# Altium footprint library footprint.PcbLib: 25 footprints (part 2 of 2)
Each footprint in its own frame and in the unit in brackets; x right, y up, seen from the top. Pads: shape width x height; smd on the part's side, far side on the other; paste and mask are expansions set on the pad; w line width, h text height; cw(c..) or ccw(c..) is an arc to the next point about the centre after c.
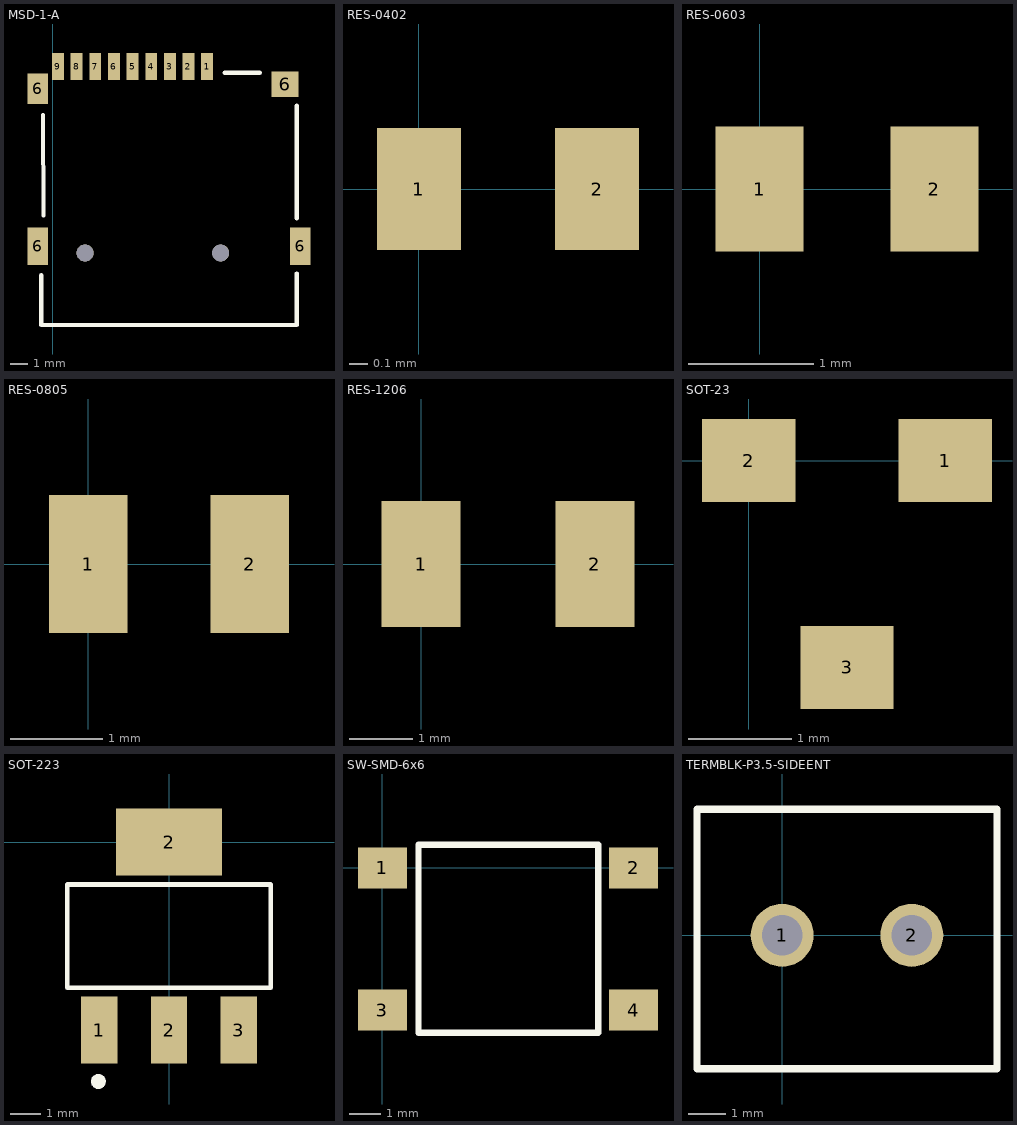
[diagram p1: the footprints below, top view; thin cyan lines are the x and y axes]

## MSD-1-A [mm]
pads (15):
  rect 0.7x1.6 smd mask+0.08: 1(9.118,-2.93) 2(8.018,-2.93) 3(6.918,-2.93) 4(5.818,-2.93) 5(4.718,-2.93) 6(3.618,-2.93) 7(2.518,-2.93) 8(1.418,-2.93) 9(0.318,-2.93)
  rect 1.2x2.2 smd mask+0.1: 6(-0.882,-13.53) 6(14.618,-13.53)
  rect 1.2x1.8 smd mask+0.1: 6(-0.882,-4.23)
  rect 1.6x1.5 smd mask+0.1: 6(13.718,-3.98)
  round 1 hole 1 unplated: ""(1.918,-13.93) ""(9.918,-13.93)
Top Overlay:
  lines w0.254: -0.665,-15.237 -0.665,-18.182 9.481,-18.182 10.217,-18.182 14.41,-18.182 14.41,-15.141 ; -0.569,-5.795 -0.537,-11.716 ; 10.152,-3.299 12.226,-3.299 ; 14.41,-11.876 14.41,-5.251
3D body "Same_Sky_MSD-1-A.step": height 1.8, standoff -0.6, extent -1.157,-17.98 14.993,-2.93

## RES-0402 [mm]
pads (2):
  rect 0.45x0.65 smd mask+0.02: 1(0,0) 2(0.95,0)
3D body "RC0402FR-07226RL.STEP": height 0.4, standoff 0, extent -0.037,-0.239 0.963,0.261

## RES-0603 [mm]
pads (2):
  rect 0.7x1 smd mask+0.03: 1(0,0) 2(1.4,0)
3D body "RC0603JR-070RL--3DModel-STEP-510211.STEP": height 0.55, standoff 0, extent -0.105,-0.398 1.495,0.402

## RES-0805 [mm]
pads (2):
  rect 0.85x1.5 smd mask+0.04: 1(0,0) 2(1.75,0)
3D body "RC0805FR-07910RL.STEP": height 0.6, standoff 0, extent -0.128,-0.604 1.872,0.646

## RES-1206 [mm]
pads (2):
  rect 1.25x2 smd mask+0.05: 1(0,0) 2(2.75,0)
3D body "RC1206JR-0713RL.STEP": height 0.65, standoff 0, extent -0.127,-0.787 2.973,0.813

## SOT-23 [mm]
pads (3):
  rect 0.9x0.8 smd mask+0.05: 1(1.9,0) 2(0,0) 3(0.95,-2)
3D body "S8050--3DModel-STEP-510211.STEP": height 1.4, standoff 0, extent -0.506,-2.306 2.394,0.294

## SOT-223 [mm]
pads (5):
  rect 1.2x2.2 smd mask+0.07: 1(-2.3,-6.2) 2(0,-6.2) 3(2.3,-6.2)
  rect 3.5x2.2 smd mask+0.07: 2(0,0)
  round 0.5 on Top Overlay: ""(-2.33,-7.893)
Top Overlay:
  lines w0.15: -3.35,-4.8 -3.35,-1.4 3.35,-1.4 3.35,-4.8 -3.35,-4.8
3D body "SOT-223_DIO.step": height 1.65, standoff 0, extent -3.3,-6.669 3.25,0.431

## SW-SMD-6x6 [mm]
pads (4):
  rect 1.55x1.3 smd mask+0.1: 1(0,0) 2(7.95,0) 3(0,-4.5) 4(7.95,-4.5)
Top Overlay:
  lines w0.2: 1.14,-5.223 1.14,0.731 6.832,0.731 6.832,-5.223 1.14,-5.223
3D body "PTS645SK43SMTR92 LFS.STEP": height 4.3, standoff 0, extent -0.52,-5.233 8.48,0.767

## TERMBLK-P3.5-SIDEENT [mm]
pads (2):
  round 1.7 hole 1.1: 1(0,0) 2(3.5,0)
Top Overlay:
  lines w0.2: -2.3,-3.6 5.8,-3.6 5.8,3.4 -2.3,3.4 -2.3,-3.6
3D body "OSTTE020104--3DModel-STEP-56544.STEP": height 8.4, standoff -3.8, extent -2.224,-3.606 5.776,3.394